# Altium footprint library myPcbLib1.PcbLib: 151 footprints (part 9 of 10)
Each footprint in its own frame and in the unit in brackets; x right, y up, seen from the top. Pads: shape width x height; smd on the part's side, far side on the other; paste and mask are expansions set on the pad; w line width, h text height; cw(c..) or ccw(c..) is an arc to the next point about the centre after c.
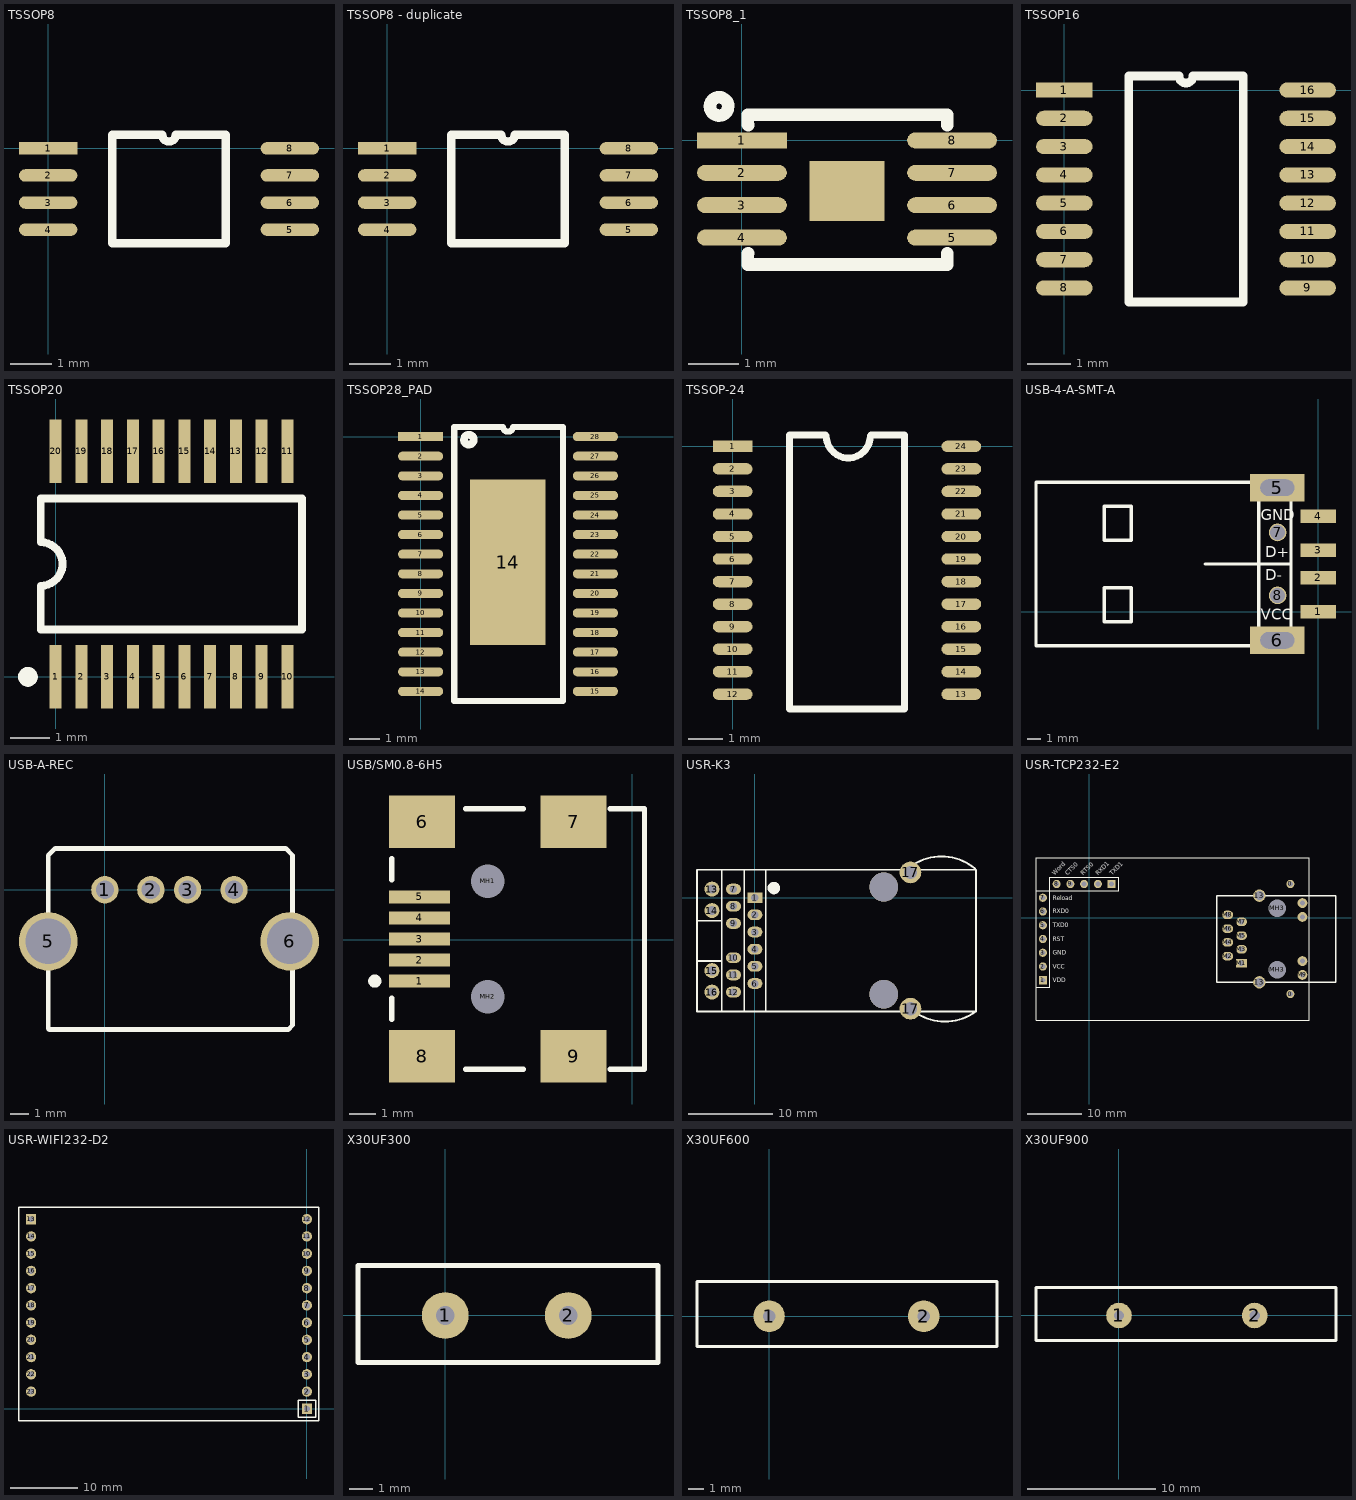
[diagram p8: the footprints below, top view; thin cyan lines are the x and y axes]

## TSSOP8 [mm]
pads (8):
  rect 1.4x0.3 smd: 1(0,0)
  oval 1.4x0.3 smd: 2(0,-0.65) 3(0,-1.3) 4(0,-1.95) 5(5.8,-1.95) 6(5.8,-1.3) 7(5.8,-0.65) 8(5.8,0)
Top Overlay:
  lines w0.2: 1.535,-2.275 1.535,0.325 2.738,0.325 ccw(c2.9,0.325) 3.062,0.325 4.265,0.325 4.265,-2.275 1.535,-2.275

## TSSOP8 - duplicate [mm]
pads (8):
  rect 1.4x0.3 smd: 1(0,0)
  oval 1.4x0.3 smd: 2(0,-0.65) 3(0,-1.3) 4(0,-1.95) 5(5.8,-1.95) 6(5.8,-1.3) 7(5.8,-0.65) 8(5.8,0)
Top Overlay:
  lines w0.2: 1.535,-2.275 1.535,0.325 2.738,0.325 ccw(c2.9,0.325) 3.062,0.325 4.265,0.325 4.265,-2.275 1.535,-2.275

## TSSOP8_1 [mm]
pads (9):
  rect 1.8x0.32 smd: 1(0,0)
  oval 1.8x0.32 smd: 2(0,-0.65) 3(0,-1.3) 4(0,-1.95) 5(4.211,-1.95) 6(4.211,-1.3) 7(4.211,-0.65) 8(4.211,0)
  rect 1.5x1.2 smd: ""(2.108,-1.016)
Top Overlay:
  lines w0.25: -0.279,0.635 cw(c-0.457,0.679) -0.274,0.679
  lines w0.254: 0.127,-2.261 ccw(c0.158,-2.292) 0.114,-2.292 0.114,-2.489 4.115,-2.489 4.115,-2.261 ; 0.127,0.305 cw(c0.158,0.336) 0.114,0.336 0.114,0.51 4.115,0.51 4.115,0.305

## TSSOP16 [mm]
pads (16):
  rect 1.3x0.35 smd: 1(0,0)
  oval 1.3x0.35 smd: 2(0,-0.65) 3(0,-1.3) 4(0,-1.95) 5(0,-2.6) 6(0,-3.25) 7(0,-3.9) 8(0,-4.55) 9(5.6,-4.55) 10(5.6,-3.9) 11(5.6,-3.25) 12(5.6,-2.6) 13(5.6,-1.95) 14(5.6,-1.3) 15(5.6,-0.65) 16(5.6,0)
Top Overlay:
  lines w0.2: 1.485,-4.875 1.485,0.325 2.638,0.325 ccw(c2.8,0.325) 2.962,0.325 4.115,0.325 4.115,-4.875 1.485,-4.875

## TSSOP20 [mm]
pads (20):
  rect 0.3x1.6 smd: 1(0,0) 2(0.65,0) 3(1.3,0) 4(1.95,0) 5(2.6,0) 6(3.25,0) 7(3.9,0) 8(4.55,0) 9(5.2,0) 10(5.85,0) 11(5.85,5.7) 12(5.2,5.7) 13(4.55,5.7) 14(3.9,5.7) 15(3.25,5.7) 16(2.6,5.7) 17(1.95,5.7) 18(1.3,5.7) 19(0.65,5.7) 20(0,5.7)
Top Overlay:
  circle w0.25: c-0.7,0 r0.125
  lines w0.2: -0.375,1.2 6.225,1.2 6.225,4.5 -0.375,4.5 -0.375,3.4 cw(c-0.375,2.85) -0.375,2.3 -0.375,1.2

## TSSOP28_PAD [mm]
pads (29):
  rect 1.5x0.3 smd: 1(0,0)
  oval 1.5x0.3 smd: 2(0,-0.65) 3(0,-1.3) 4(0,-1.95) 5(0,-2.6) 6(0,-3.25) 7(0,-3.9) 8(0,-4.55) 9(0,-5.2) 10(0,-5.85) 11(0,-6.5) 12(0,-7.15) 13(0,-7.8) 14(0,-8.45) 15(5.8,-8.45) 16(5.8,-7.8) 17(5.8,-7.15) 18(5.8,-6.5) 19(5.8,-5.85) 20(5.8,-5.2) 21(5.8,-4.55) 22(5.8,-3.9) 23(5.8,-3.25) 24(5.8,-2.6) 25(5.8,-1.95) 26(5.8,-1.3) 27(5.8,-0.65) 28(5.8,0)
  rect 2.5x5.5 smd: 14(2.896,-4.166)
Top Overlay:
  lines w0.2: 1.118,-8.775 4.724,-8.775 4.724,0.325 3.062,0.325 cw(c2.9,0.325) 2.738,0.325 1.118,0.325 1.118,-8.775
  lines w0.254: 1.438,-0.098 ccw(c1.6,-0.102) 1.46,-0.019

## TSSOP-24 [mm]
pads (24):
  rect 1.143x0.33 smd: 1(0,0)
  oval 1.143x0.33 smd: 2(0,-0.65) 3(0,-1.3) 4(0,-1.95) 5(0,-2.6) 6(0,-3.25) 7(0,-3.9) 8(0,-4.55) 9(0,-5.2) 10(0,-5.85) 11(0,-6.5) 12(0,-7.15) 13(6.6,-7.15) 14(6.6,-6.5) 15(6.6,-5.85) 16(6.6,-5.2) 17(6.6,-4.55) 18(6.6,-3.9) 19(6.6,-3.25) 20(6.6,-2.6) 21(6.6,-1.95) 22(6.6,-1.3) 23(6.6,-0.65) 24(6.6,0)
Top Overlay:
  lines w0.2: 2.676,0.325 1.635,0.325 1.635,-7.574 4.965,-7.574 4.965,0.325 3.997,0.325 ; 2.702,0.3 ccw(c3.337,0.3) 3.972,0.3

## USB-4-A-SMT-A [mm]
pads (8):
  rect 2.6x1 smd: 1(0,0) 2(0,2.5) 3(0,4.5) 4(0,7)
  rect 4x2 hole 1.2 slot 2.5 at 0 deg: 5(-3,9.1) 6(-3,-2.1)
  round 1.3 hole 1.1: 7(-2.981,5.817) 8(-2.981,1.2)
Top Overlay:
  lines w0.254: -8.3,3.5 -2,3.5 ; -4.35,-2.5 -4.35,9.5 ; -20.7,-2.5 -2,-2.5 -2,9.5 -20.7,9.5 -20.7,-2.5 ; -15.7,-0.75 -15.7,1.75 -13.7,1.75 -13.7,-0.75 -15.7,-0.75 ; -15.7,5.25 -13.7,5.25 -13.7,7.75 -15.7,7.75 -15.7,5.25
  text "D+" at -3.87,3.988 h0.8
  text "D-" at -3.9,2.3 h0.8
  text "GND" at -4.2,6.7 h0.8
  text "VCC" at -4.2,-0.6 h0.8
Bottom Overlay:
  lines w0.254: -4.35,-2.5 -4.35,9.5 ; -20.7,-2.5 -2,-2.5 -2,9.5 -20.7,9.5 -20.7,-2.5
Mechanical 1:
  lines w0.254: -4.25,-2.6 -4.25,-1.6 -1.75,-1.6 -1.75,-2.6 -4.25,-2.6 ; -4.25,8.6 -4.25,9.6 -1.75,9.6 -1.75,8.6 -4.25,8.6

## USB-A-REC [mm] "USB-A receptacle"
pads (6):
  round 1.5 hole 1: 1(0,0) 2(2.515,0) 3(4.521,0) 4(7.061,0)
  round 3.2 hole 2.5: 5(-3.099,-2.819) 6(10.109,-2.819)
Top Overlay:
  lines w0.254: -3.099,-7.595 -3.099,-2.819 -3.099,1.88 -2.718,2.261 9.881,2.261 10.262,1.88 10.262,-7.417 10.033,-7.645 -3.048,-7.645 -3.099,-7.595

## USB/SM0.8-6H5 [mm]
pads (11):
  rect 2.3x0.5 smd: 1(-8.079,-1.575) 2(-8.079,-0.775) 3(-8.079,0.025) 4(-8.079,0.825) 5(-8.079,1.625)
  rect 2.5x2 smd: 6(-7.979,4.475) 7(-2.225,4.475) 8(-7.979,-4.425) 9(-2.225,-4.425)
  round 0.6 hole 1.27 unplated: MH1(-5.479,2.225) MH2(-5.479,-2.175)
Top Overlay:
  circle w0.25: c-9.779,-1.575 r0.125
  lines w0.2: -9.129,-3.025 -9.129,-2.225 ; -9.129,2.275 -9.129,3.075 ; -6.329,-4.925 -4.129,-4.925 ; -6.329,4.975 -4.129,4.975 ; -0.829,-4.925 0.471,-4.925 0.471,4.975 -0.829,4.975

## USR-K3 [mil]
pads (18):
  rect 70x50 hole 35: 1(0,0)
  oval 70x50 hole 35: 2(0,-80) 3(0,-160) 4(0,-240) 5(0,-320) 6(0,-400) 7(-100,40) 8(-100,-40) 9(-100,-120) 10(-100,-280) 11(-100,-360) 12(-100,-440)
  round 70 hole 43: 13(-200,40) 14(-200,-60) 15(-200,-340) 16(-200,-440)
  round 101.18 hole 61.81: 17(725,-517.5) 17(725,117.5)
via 600,-450 diameter 133.86 hole 133.86
via 600,50 diameter 133.86 hole 133.86
Top Overlay:
  circle w30: c88.46,45 r14.14
  lines w8: -269.8,130.71 -269.69,-530.71 1030.32,-530.71 1030.2,127.48 ; -269.69,130.71 1030.32,130.71 ; -265,-294.96 -160,-294.96 ; -264.61,-107.52 -154.8,-107.52 ; -155,-530.71 -155,130.71 ; -50,-530.71 -50,130.71 ; 50.2,-527.52 50.2,127.48
  lines w10: 726.59,145.57 cw(c869.47,-50.22) 1026.03,134.81 ; 729.36,-519.85 ccw(c885.92,-334.82) 1028.8,-530.61

## USR-TCP232-E2 [mil]
pads (30):
  round 59.06 hole 35.43: 0(1461,-554) 0(1461,246)
  rect 59.05x59.05 hole 35.43: 1(-339,-454) 12(161,246)
  round 59.05 hole 35.43: 2(-339,-354) 3(-339,-254) 4(-339,-154) 5(-339,-54) 6(-339,46) 7(-339,146) 8(-239,246) 9(-139,246) 10(-39,246) 11(61,246)
  round 90 hole 65: 13(1234.92,-468.76) 13(1234.92,161.16)
  rect 80x62 hole 40: M1(1105,-329)
  oval 80x62 hole 40: M2(1005,-279) M3(1105,-229) M4(1005,-179) M5(1105,-129) M6(1005,-79) M7(1105,-29) M8(1005,21)
  round 72 hole 36: M9(1547.91,-414.63) M10(1547.91,-315) M11(1547.91,6.87) M13(1547.91,107)
  round 116.14 hole 127.95 unplated: MH3(1365,-379) MH3(1365,71)
Top Overlay:
  lines w6: -389,-744 -389,-599 -389,291 -389,436 1598,436 1598,291 1598,-599 1598,-744 -389,-744
  lines w7.87: -289,196 -289,296 211,296 211,196 -289,196 ; -289,196 -389,196 -389,-504 -289,-504 -289,196
  lines w10: 926.26,-469 926.5,-468.76 ; 926.26,161 926.42,161.16 ; 926.42,161.16 1234.92,161.16 1792.24,161.16 1792.4,161 1792.4,-469 1792.17,-468.76 1234.92,-468.76 926.5,-468.76 ; 926.42,161.16 926.42,-468.69 926.5,-468.76
  text "TXD1" at 164,306 h31.5
  text "RXD1" at 64,306 h31.5
  text "RTS0" at -46,306 h31.5
  text "CTS0" at -158,306 h31.5
  text "Word" at -254,306 h31.5
  text "Reload" at -266,129 h31.5
  text "RXD0" at -266,33 h31.5
  text "TXD0" at -266,-69 h31.5
  text "RST" at -266,-171 h31.5
  text "GND" at -266,-269 h31.5
  text "VCC" at -266,-372 h31.5
  text "VDD" at -266,-469 h31.5
Multi-Layer:
  circle w5: c1365,71 r70.8
  circle w5: c1365,-379 r70.8

## USR-WIFI232-D2 [mil]
pads (23):
  rect 60x60 hole 33.47: 1(0,0) 13(-1600,1100)
  round 60 hole 33.47: 2(0,100) 3(0,200) 4(0,300) 5(0,400) 6(0,500) 7(0,600) 8(0,700) 9(0,800) 10(0,900) 11(0,1000) 12(0,1100) 14(-1600,1000) 15(-1600,900) 16(-1600,800) 17(-1600,700) 18(-1600,600) 19(-1600,500) 20(-1600,400) 21(-1600,300) 22(-1600,200) 23(-1600,100)
Top Overlay:
  lines w8: -1670,-70 70,-70 70,1170 -1670,1170 -1670,-70 ; -50,-50 -50,50 50,50 50,-50 -50,-50

## X30UF300 [mm]
pads (2):
  round 2 hole 0.8: 1(0,0) 2(5.258,0)
Top Overlay:
  lines w0.2: -3.734,-2.007 9.093,-2.007 9.093,2.134 -1.422,2.134 -3.734,2.134 -3.734,-2.007

## X30UF600 [mm]
pads (2):
  round 2 hole 0.8: 1(0,0) 2(9.804,0)
Top Overlay:
  lines w0.2: -4.572,-1.93 14.453,-1.93 14.453,2.21 -1.397,2.21 -4.572,2.21 -4.572,-1.93

## X30UF900 [mm]
pads (2):
  round 2 hole 0.8: 1(0,0) 2(10.592,0)
Top Overlay:
  lines w0.2: -6.477,-1.956 16.942,-1.956 16.942,2.184 -1.397,2.184 -6.477,2.184 -6.477,-1.956